# EAGLE library part VNH5019ATR-E (library VNH5019ATR-E)
Motor / Motion / Ignition Controllers & Drivers Automotive h-Bridge 18mohm 30a 41v Vcc Check prices <https://pricing.snapeda.com/parts/VNH5019ATR-E/STMicroelectronics/view-part?ref=eda>
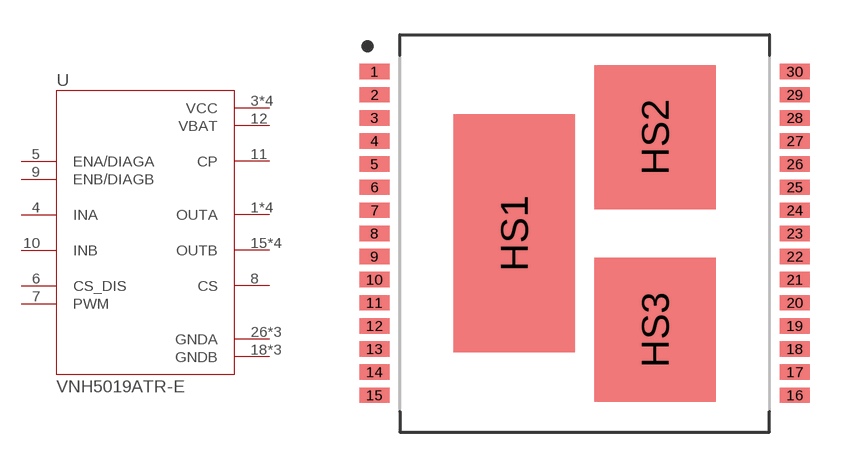
[diagram p0: symbol with the pads of IC_VNH5019ATR-E; footprint IC_VNH5019ATR-E]

Designator prefix U

## VNH5019ATR-E (AVAILABILITY: Good; DESCRIPTION: Motor Driver Power MOSFET Parallel, PWM MultiPowerSO-30; MF: STMicroelectronics; MP: VNH5019ATR-E; PACKAGE: SOP-30 STMicroelectronics; PRICE: None; PURCHASE-URL: https://pricing.snapeda.com/search/part/VNH5019ATR-E/?ref=eda)  [IC_VNH5019ATR-E]
1  OUTA  out
3  VCC  pwr
4  INA  in
5  ENA/DIAGA  in
6  CS_DIS  in
7  PWM  in
8  CS  out
9  ENB/DIAGB  in
10  INB  in
11  CP  out
12  VBAT  pwr
13  VCC  pwr
15  OUTB  out
16  OUTB  out
18  GNDB  pwr
19  GNDB  pwr
20  GNDB  pwr
21  OUTB  out
23  VCC  pwr
25  OUTA  out
26  GNDA  pwr
27  GNDA  pwr
28  GNDA  pwr
30  OUTA  out
HS1  VCC  pwr
HS2  OUTA  out
HS3  OUTB  out

## Footprint IC_VNH5019ATR-E (pad centres in mm)
smd 1.3 x 0.665: 1 -9.1,7; 2 -9.1,6; 3 -9.1,5; 4 -9.1,4; 5 -9.1,3; 6 -9.1,2; 7 -9.1,1; 8 -9.1,0; 9 -9.1,-1; 10 -9.1,-2; 11 -9.1,-3; 12 -9.1,-4; 13 -9.1,-5; 14 -9.1,-6; 15 -9.1,-7; 16 9.1,-7; 17 9.1,-6; 18 9.1,-5; 19 9.1,-4; 20 9.1,-3; 21 9.1,-2; 22 9.1,-1; 23 9.1,0; 24 9.1,1; 25 9.1,2; 26 9.1,3; 27 9.1,4; 28 9.1,5; 29 9.1,6; 30 9.1,7
smd 5.25 x 10.3: HS1 -3.05,0
smd 5.25 x 6.23: HS2 3.05,4.165; HS3 3.05,-4.165